# EAGLE library part NB3N551DG (library LunchBox48_ASIC_board)
1:4 clock fanout buffer
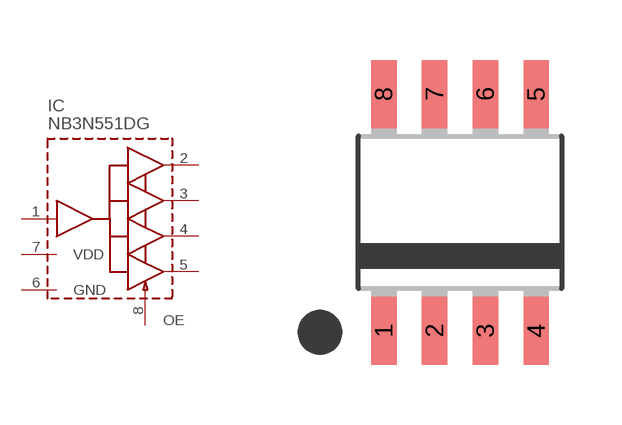
[diagram p3: symbol with the pads of SO-8; footprint SO-8]

Designator prefix IC

## NB3N551DG  [SO-8]
1  CLK  in
2  Q1  out
3  Q2  out
4  Q3  out
5  Q4  out
6  GND  pwr
7  VDD  pwr
8  OE  in

## Footprint SO-8 (pad centres in mm)
smd 0.635 x 1.7: 1 -1.905,-2.958; 2 -0.635,-2.958; 3 0.635,-2.958; 4 1.905,-2.958; 5 1.905,2.958; 6 0.635,2.958; 7 -0.635,2.958; 8 -1.905,2.958